# Altium schematic symbol library PB2_AdapterBoard_Rev0.SchLib: 5 symbols
Pins are listed as number, name and electrical type; pins without a type are passive.

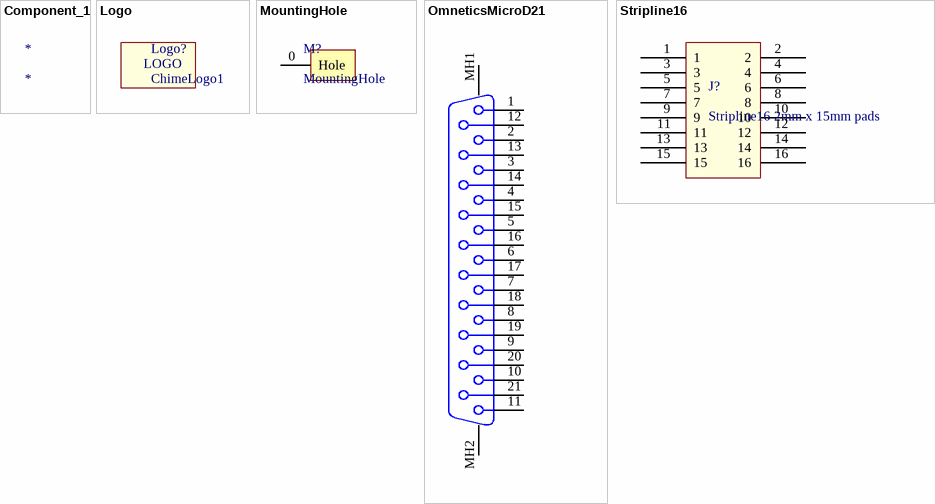
[diagram p0: symbols Component_1 to Stripline16]

## Component_1
designator *

## Logo
designator Logo?, comment ChimeLogo1  (no BOM)
footprint ChimeLogo1
text: LOGO

## MountingHole
designator M?
footprint MountingHole (Mounting Hole)
pins: 0 Hole

## OmneticsMicroD21
designator J?, comment Omnetics MMDx-021-B00-R2
OmneticsMicroD21
footprint MMDS-021-B02-R2 (Omnetrics21pinR2Tail)
pins: 1, 2, 3, 4, 5, 6, 7, 8, 9, 10, 11, 12, 13, 14, 15, 16, 17, 18, 19, 20, 21, MH1, MH2

## Stripline16
designator J?, comment Stripline16 2mm x 15mm pads
footprint Stripline16
pins: 1, 2, 3, 4, 5, 6, 7, 8, 9, 10, 11, 12, 13, 14, 15, 16